# Altium footprint library GenCryst.PcbLib: 28 footprints (part 1 of 2)
Each footprint in its own frame and in the unit in brackets; x right, y up, seen from the top. Pads: shape width x height; smd on the part's side, far side on the other; paste and mask are expansions set on the pad; w line width, h text height; cw(c..) or ccw(c..) is an arc to the next point about the centre after c.
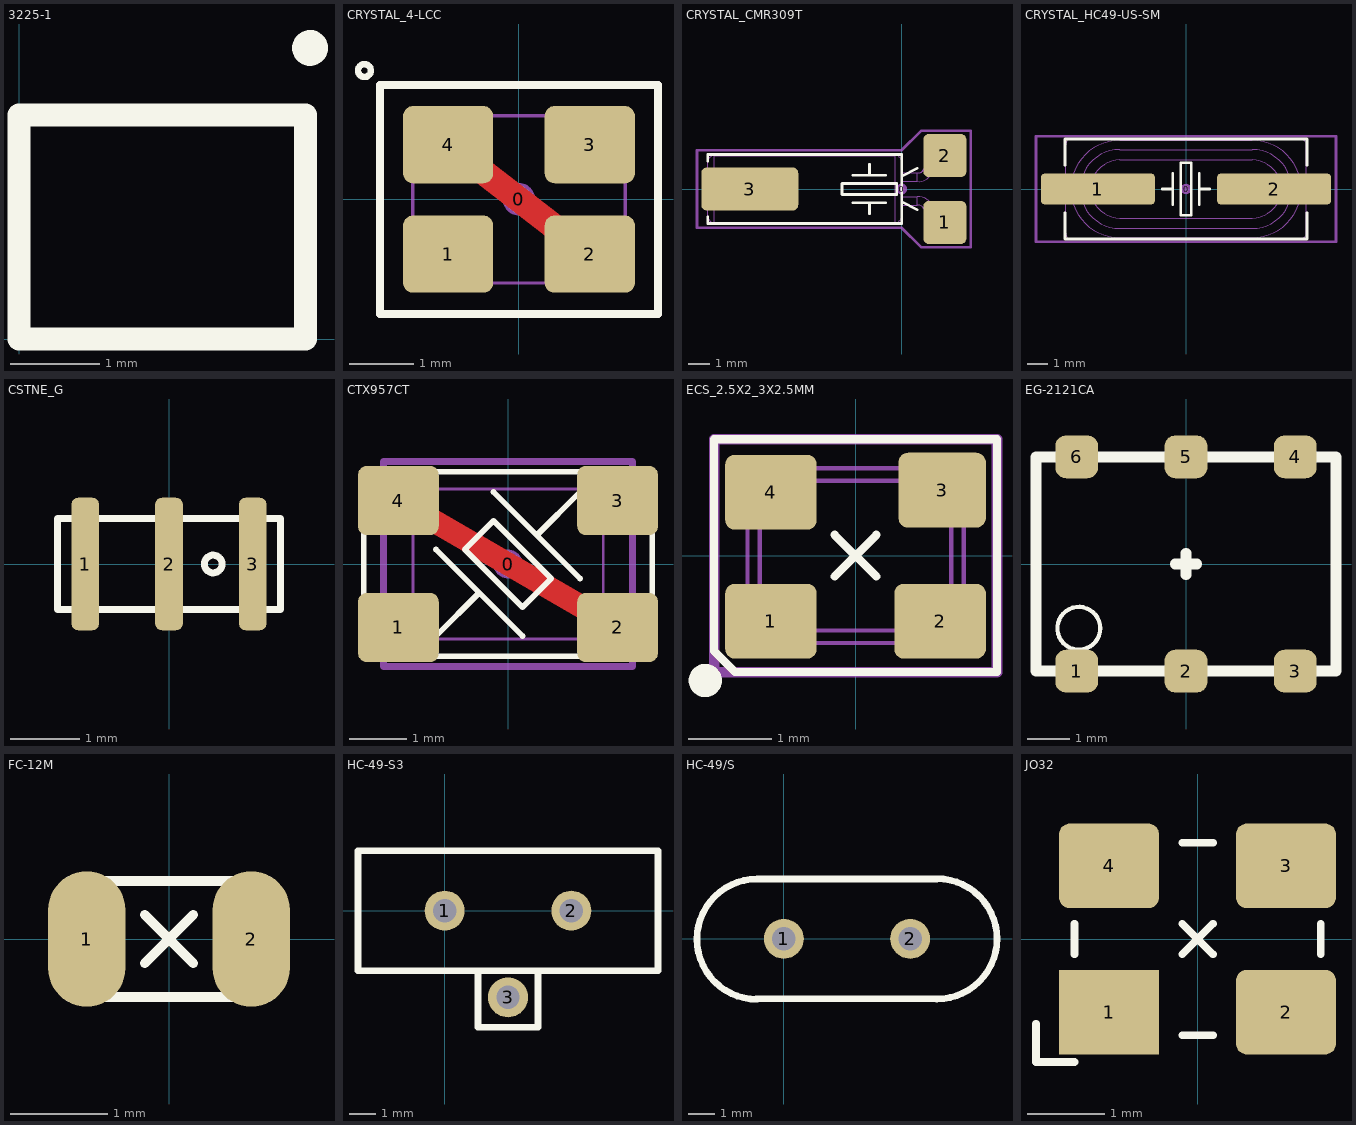
[diagram p0: the footprints below, top view; thin cyan lines are the x and y axes]

## 3225-1 [mm]
Top Overlay:
  circle w0.2: c3.25,3.25 r0.1
  lines w0.254: 0,0 0,2.5 3.2,2.5 3.2,0 0,0
3D body "3225-1.step": height 0.61, standoff 0, extent 0,0 3.2,2.5

## CRYSTAL_4-LCC [mm] "SMD Crystal 4-lead leadless package"
height 0.8
pads (5):
  round 0.508 on Mech15: 0(0,0)
  rrect25% 1.4x1.2 smd: 1(-1.1,-0.85) 2(1.1,-0.85) 3(1.1,0.85) 4(-1.1,0.85)
Top Layer:
  lines w0.4: -1.1,0.85 1.1,-0.85
Top Overlay:
  circle w0.1: c-2.4,2 r0.1
  lines w0.127: -2.159,-1.778 2.159,-1.778 2.159,1.778 -2.159,1.778 -2.159,-1.778
Mechanical 13:
  lines w0.05: -1.65,-1.143 -1.65,1.143 -1.493,1.3 1.494,1.3 1.65,1.144 1.65,-1.143 1.493,-1.3 -1.493,-1.3 -1.65,-1.143
Mechanical 15:
  lines w0.127: -2.159,-1.778 -2.159,1.778 2.159,1.778 2.159,-1.778 -2.159,-1.778
3D body "Crystal TXC Corp 7M series.STEP": height 0.8, standoff 0, extent -1.65,-1.3 1.65,1.3

## CRYSTAL_CMR309T [mm] "SMD Crystal CMR309T package"
height 3.1
pads (4):
  round 0.508 on Mech15: 0(0,0)
  rrect25% 2x2 smd: 1(2,-1.55) 2(2,1.55)
  rrect25% 4.5x2 smd: 3(-7.05,0)
Top Overlay:
  lines w0.127: -9,-1.3 -9,-1.6 0,-1.6 0,-0.6 ; -9,1.3 -9,1.6 0,1.6 0,0.6 ; -2.262,-0.635 -0.738,-0.635 ; -2.262,0.635 -0.738,0.635 ; -1.5,-1.143 -1.5,-0.635 ; -1.5,0.635 -1.5,1.143 ; 0.72,-0.96 0,-0.6 ; 0.72,0.96 0,0.6 ; 0,-0.6 0,0.6 ; -2.77,-0.254 -2.77,0.254 -0.23,0.254 -0.23,-0.254 -2.77,-0.254
Mechanical 13:
  lines w0.05: 0,-0.75 0.71,-0.75 ; 0,-0.35 0.71,-0.35 ; 0,0.35 0.71,0.35 ; 0,0.75 0.71,0.75 ; 0.931,-0.79 0.937,-0.798 0.965,-0.823 0.999,-0.84 1.037,-0.85 1.077,-0.851 1.118,-0.843 1.158,-0.828 1.195,-0.805 1.226,-0.776 1.252,-0.741 1.27,-0.704 1.279,-0.664 1.28,-0.625 1.271,-0.588 1.255,-0.555 1.25,-0.548 ; 0.931,0.79 0.937,0.798 0.965,0.823 0.999,0.84 1.037,0.85 1.077,0.851 1.118,0.843 1.158,0.828 1.195,0.805 1.226,0.776 1.252,0.741 1.27,0.704 1.279,0.664 1.28,0.625 1.271,0.588 1.255,0.555 1.25,0.548 ; -8.7,-1.55 cw(c-8.7,-1.25) -9,-1.25 -9,1.25 cw(c-8.7,1.25) -8.7,1.55 ; -8.7,-1.55 -0.3,-1.55 ; -8.7,-1.55 -8.7,1.55 ; -8.7,1.55 -0.3,1.55 ; -0.3,-1.55 ccw(c-0.3,-1.25) 0,-1.25 0,1.25 ccw(c-0.3,1.25) -0.3,1.55 ; -0.3,-1.55 -0.3,1.55 ; 0.71,-0.75 cw(c0.741,-1.171) 0.936,-0.796 1.229,-1.183 ; 0.71,-0.75 0.71,-0.35 ; 0.71,-0.35 cw(c0.757,-1.055) 1.25,-0.548 ; 0.71,0.35 ccw(c0.775,1.007) 1.25,0.548 ; 0.71,0.35 0.71,0.75 ; 0.71,0.75 0.73,0.75 0.773,0.753 0.814,0.758 0.851,0.765 0.881,0.773 0.906,0.781 0.923,0.789 0.933,0.794 0.937,0.797 ; 0.937,0.797 0.937,0.797 ; 0.937,0.797 1.229,1.183 ; 1.229,-1.183 ccw(c2.616,-0.029) 1.491,-1.439 ; 1.229,-1.183 1.236,-1.191 1.263,-1.216 1.297,-1.234 1.335,-1.243 1.376,-1.244 1.417,-1.237 1.456,-1.221 1.493,-1.198 1.525,-1.169 1.55,-1.135 1.568,-1.097 1.577,-1.058 1.578,-1.019 1.569,-0.982 1.553,-0.948 1.548,-0.942 ; 1.229,1.183 cw(c2.589,0.057) 1.491,1.439 ; 1.229,1.183 1.236,1.191 1.263,1.216 1.297,1.234 1.335,1.243 1.376,1.244 1.417,1.237 1.456,1.221 1.493,1.198 1.525,1.169 1.55,1.135 1.568,1.097 1.577,1.058 1.578,1.019 1.569,0.982 1.553,0.948 1.548,0.942 ; 1.25,-0.548 1.548,-0.942 ; 1.25,0.548 1.548,0.942 ; 1.491,-1.439 ccw(c0.753,-0.568) 1.746,-1.132 ; 1.491,-1.439 2.472,-2.254 ccw(c1.735,-1.382) 2.728,-1.946 1.746,-1.132 ; 1.491,1.439 cw(c0.753,0.568) 1.746,1.132 ; 1.491,1.439 2.472,2.254 cw(c1.735,1.382) 2.728,1.946 1.746,1.132 ; 1.548,-0.942 ccw(c2.638,-0.003) 1.746,-1.132 ; 1.548,0.942 cw(c2.604,0.039) 1.746,1.132
Mechanical 15:
  lines w0.127: -9.5,-1.8 -9.5,1.8 0,1.8 0.9,2.7 3.2,2.7 3.2,-2.7 0.9,-2.7 0,-1.8 -9.5,-1.8
3D body "Crystal CMR309T.STEP": height 3.07, standoff -0.01, extent -9,-2.254 2.728,2.254

## CRYSTAL_HC49-US-SM [mm] "SMD Crystal HC49/US-SM package"
height 4.3
pads (3):
  round 0.508 on Mech15: 0(0,0)
  rrect25% 5.5x1.5 smd: 1(-4.25,0) 2(4.25,0)
Top Overlay:
  lines w0.127: -5.842,-1.143 -5.842,-2.413 5.842,-2.413 5.842,-1.143 ; -5.842,1.143 -5.842,2.413 5.842,2.413 5.842,1.143 ; -1.143,0 -0.635,0 ; -0.635,-0.762 -0.635,0.762 ; 0.635,-0.762 0.635,0.762 ; 0.635,0 1.143,0 ; -0.254,-1.27 -0.254,1.27 0.254,1.27 0.254,-1.27 -0.254,-1.27
Mechanical 13:
  lines w0.05: -5.8,-0.45 -6.4,-0.45 -6.4,0.45 -5.8,0.45 ; 5.8,-0.45 6.4,-0.45 6.4,0.45 5.8,0.45 ; -5.8,-2.165 ccw(c-5.55,-2.165) -5.55,-2.415 5.55,-2.415 ccw(c5.55,-2.165) 5.8,-2.165 5.8,2.165 ccw(c5.55,2.165) 5.55,2.415 -5.55,2.415 ccw(c-5.55,2.165) -5.8,2.165 -5.8,-2.165 ; -3.2,-2.35 cw(c-3.2,0) -3.2,2.35 3.2,2.35 cw(c3.2,0) 3.2,-2.35 -3.2,-2.35 ; -3.2,-1.9 cw(c-3.2,0) -3.2,1.9 3.2,1.9 cw(c3.2,0) 3.2,-1.9 -3.2,-1.9 ; -3.2,-1.4 cw(c-3.2,0) -3.2,1.4 3.2,1.4 cw(c3.2,0) 3.2,-1.4 -3.2,-1.4
Mechanical 15:
  lines w0.127: -7.239,-2.54 -7.239,2.54 7.239,2.54 7.239,-2.54 -7.239,-2.54
3D body "Crystal HC49_US-SM.STEP": height 4.29, standoff -0.01, extent -6.4,-2.415 6.4,2.415

## CSTNE_G [mm]
height 0.7
pads (3):
  rrect50% 0.4x1.9 smd: 1(-1.2,0) 2(0,0) 3(1.2,0)
Top Overlay:
  circle w0.1: c0.635,0 r0.127
  lines w0.1: -1.6,-0.65 -1.6,0.65 1.6,0.65 1.6,-0.65 -1.6,-0.65
3D body "User Library-CSTNE.step": height 0.7, standoff 0, extent -1.6,-0.65 1.6,0.65

## CTX957CT [mm]
pads (5):
  round 0.508 on Mech15: 0(0,0)
  rrect25% 1.4x1.2 smd: 1(-1.9,-1.1) 2(1.9,-1.1) 3(1.9,1.1) 4(-1.9,1.1)
Top Layer:
  lines w0.4: -1.9,1.1 1.9,-1.1
Top Overlay:
  lines w0.1: -1.25,-1.25 -0.5,-0.5 ; -1.25,0.25 0.25,-1.25 ; -0.25,1.25 1.25,-0.25 ; 0.5,0.5 1.25,1.25 ; -2.5,-0.944 -2.5,1.4 -2.3,1.6 2.3,1.6 2.5,1.4 2.5,-1.4 2.3,-1.6 -1.844,-1.6 -2.5,-0.944 ; -0.75,0.25 -0.25,0.75 0.75,-0.25 0.25,-0.75 -0.75,0.25
Mechanical 13:
  lines w0.05: -1.65,-1.143 -1.493,-1.3 1.493,-1.3 1.65,-1.143 1.65,1.144 1.494,1.3 -1.493,1.3 -1.65,1.143 -1.65,-1.143
Mechanical 15:
  lines w0.127: -2.159,-1.778 2.159,-1.778 2.159,1.778 -2.159,1.778 -2.159,-1.778
3D body "Crystal TXC Corp 7M series.STEP": height 0.8, standoff 0, extent -1.65,-1.3 1.65,1.3

## DT-26-1 [mm] "DT-26 32.768Khz Crystal Oscillator"
3D body "User Library-DT-26-1.step": height 1, standoff -1, extent -6,-3 1.14,1

## ECS-3225S [mm]

## ECS_2.5X2_3X2.5MM [mm]
pads (4):
  rrect25% 1.1x0.9 smd: 1(-1.016,-0.787) 2(1.016,-0.787) 4(-1.016,0.762)
  rrect25% 1.05x0.9 smd mask+0.075: 3(1.041,0.787)
Top Overlay:
  circle w0.2: c-1.805,-1.5 r0.1
  lines w0.1: -0.25,-0.25 0.25,0.25 ; -0.25,0.25 0.25,-0.25 ; -1.7,-1.145 -1.7,1.4 1.7,1.4 1.7,-1.397 -1.448,-1.397 -1.7,-1.145
Mechanical 13:
  lines w0.05: -1.3,-0.87 cw(c-1.3,-1.05) -1.12,-1.05 1.12,-1.05 cw(c1.3,-1.05) 1.3,-0.87 1.3,0.87 cw(c1.3,1.05) 1.12,1.05 -1.12,1.05 cw(c-1.3,1.05) -1.3,0.87 -1.3,-0.87 ; -1.15,-0.75 ccw(c-1,-0.75) -1,-0.9 1,-0.9 ccw(c1,-0.75) 1.15,-0.75 1.15,0.75 ccw(c1,0.75) 1,0.9 -1,0.9 ccw(c-1,0.75) -1.15,0.75 -1.15,-0.75
Mechanical 15:
  lines w0.127: -1.7,-1.4 1.7,-1.4 1.7,1.4 -1.7,1.4 -1.7,-1.4
3D body "Crystal NDK NX2520SA series.STEP": height 0.55, standoff 0, extent -1.3,-1.05 1.3,1.05

## EG-2121CA [mm] "external dimensions: 7x5x1.2 EG-2121/2102"
pads (6):
  rrect50% 1x1 smd: 1(-2.55,-2.5) 2(0,-2.5) 3(2.55,-2.5) 4(2.55,2.5) 5(0,2.5) 6(-2.55,2.5)
Top Overlay:
  circle w0.1: c-2.5,-1.5 r0.5
  lines w0.254: -0.25,0 0.25,0 ; 0,-0.25 0,0 0,0.25 ; -3.5,-2.5 -3.5,2.5 3.5,2.5 3.5,-2.5 -3.5,-2.5
3D body "User Library-EG-2121CA.step": height 1.2, standoff 0, extent -3.502,-2.502 3.502,2.502

## Epson SG-3030CM [mm] "Frequency range, 32.768 kHz, External dimensions 3.2 x 1.5 x 0.9mm, VIO controls swing amplitude."
3D body "User Library-EPSON_SG-3030CM.step": height 0.9, standoff 0, extent -1.601,-0.751 1.601,0.751

## FC-12M [mm]
pads (2):
  oval 0.8x1.4 smd: 1(-0.85,0) 2(0.85,0)
Top Overlay:
  lines w0.1: -0.25,-0.25 0.25,0.25 ; -0.25,0.25 0.25,-0.25 ; -1.025,-0.6 -1.025,0.6 1.025,0.6 1.025,-0.6 -1.025,-0.6
3D body "FC-12M32_7680KA-A3_EPS.step": height 0.61, standoff 0, extent -1.1,-0.698 1.1,0.698

## HC-49-S3 [mil]
height 165.35
pads (3):
  round 60 hole 35: 1(0,0) 2(190,0) 3(95,-130)
Top Overlay:
  lines w10: 50,-90 50,-175 140,-175 140,-90 ; -130,-90 320,-90 320,90 -130,90 -130,-90
3D body "User Library-XTAL2.step": height 121.8, standoff -100, extent -114.53,-59.96 305.47,60.04

## HC-49/S [mil]
height 165.35
pads (2):
  round 60 hole 35: 1(0,0) 2(190,0)
Top Overlay:
  lines w10: -41.08,-90 230.55,-90 ; -39.98,-91.1 cw(c-39.98,-0.55) -39.98,90 230,90 ; 230,-90.55 ccw(c230,0) 230,90.55
3D body "User Library-HC-49_LT_THT_16MHz.step": height 141.73, standoff -78.35, extent -128.16,-91.53 318.17,91.54

## JO32 [mm]
pads (4):
  rect 1.3x1.1 smd mask+0.075: 1(-1.15,-0.95)
  rrect25% 1.3x1.1 smd mask+0.075: 2(1.15,-0.95) 3(1.15,0.95) 4(-1.15,0.95)
Top Overlay:
  lines w0.1: -2.1,-1.1 -2.1,-1.6 -1.6,-1.6 ; -1.6,-0.2 -1.6,0.2 ; -0.2,-1.25 0.2,-1.25 ; -0.2,-0.2 0.2,0.2 ; -0.2,0.2 0.2,-0.2 ; -0.2,1.25 0.2,1.25 0,1.25 ; 1.6,-0.2 1.6,0.2
3D body: height 1.05, standoff 0, extent -1.6,-1.25 1.6,1.25

## LFSPXO018044 [mm] "LFSPXO018044, Crystal Oscillator, 50 MHz, ±50ppm HCMOS 50pF, 4-Pin, 7 x 5 x 1.5mm"
3D body "LFSPXO018044.step": height 1.52, standoff 0, extent -3.5,-2.51 3.5,2.51